# Altium footprint library 106-QFN.PcbLib: 1 footprints
Each footprint in its own frame and in the unit in brackets; x right, y up, seen from the top. Pads: shape width x height; smd on the part's side, far side on the other; paste and mask are expansions set on the pad; w line width, h text height; cw(c..) or ccw(c..) is an arc to the next point about the centre after c.
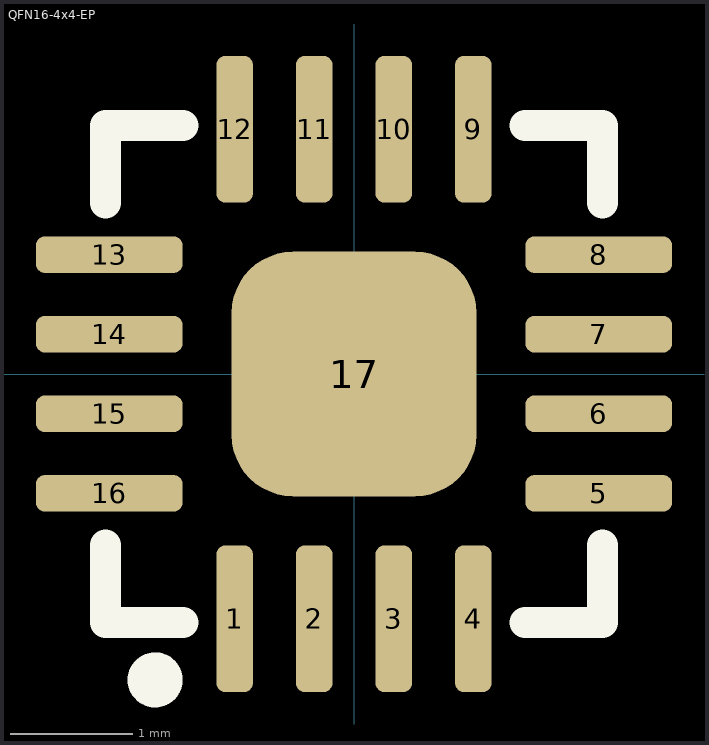
[diagram p0: the footprint, top view; thin cyan lines are the x and y axes]

## QFN16-4x4-EP [mm] "QFN16-4x4-EP-L=4.0mm/W=4.0mm/L=0.8mm/Pin=0.65mm"
height 0.8
pads (17):
  rrect50% 0.3x1.2 smd: 1(-0.975,-2) 2(-0.325,-2) 3(0.325,-2) 4(0.975,-2) 9(0.975,2) 10(0.325,2) 11(-0.325,2) 12(-0.975,2)
  rrect50% 1.2x0.3 smd: 5(2,-0.975) 6(2,-0.325) 7(2,0.325) 8(2,0.975) 13(-2,0.975) 14(-2,0.325) 15(-2,-0.325) 16(-2,-0.975)
  rrect50% 2x2 smd: 17(0,0)
Top Overlay:
  circle w0.25: c-1.625,-2.5 r0.1
  lines w0.254: -2.032,-1.397 -2.032,-2.032 -1.397,-2.032 ; -2.032,1.397 -2.032,2.032 -1.397,2.032 ; 1.397,-2.032 2.032,-2.032 2.032,-1.397 ; 1.397,2.032 2.032,2.032 2.032,1.397
Mechanical 15:
  circle w0.05: c0,0 r0.35
  lines w0.05: -0.5,0 0.5,0 ; 0,-0.5 0,0.5
3D body "QFN16-4x4-EP.step": height 1.02, standoff 0, extent -1.975,-1.975 2.025,2.025